# Altium schematic symbol library PCB_Project.SCHLIB: 27 symbols
Pins are listed as number, name and electrical type; pins without a type are passive.

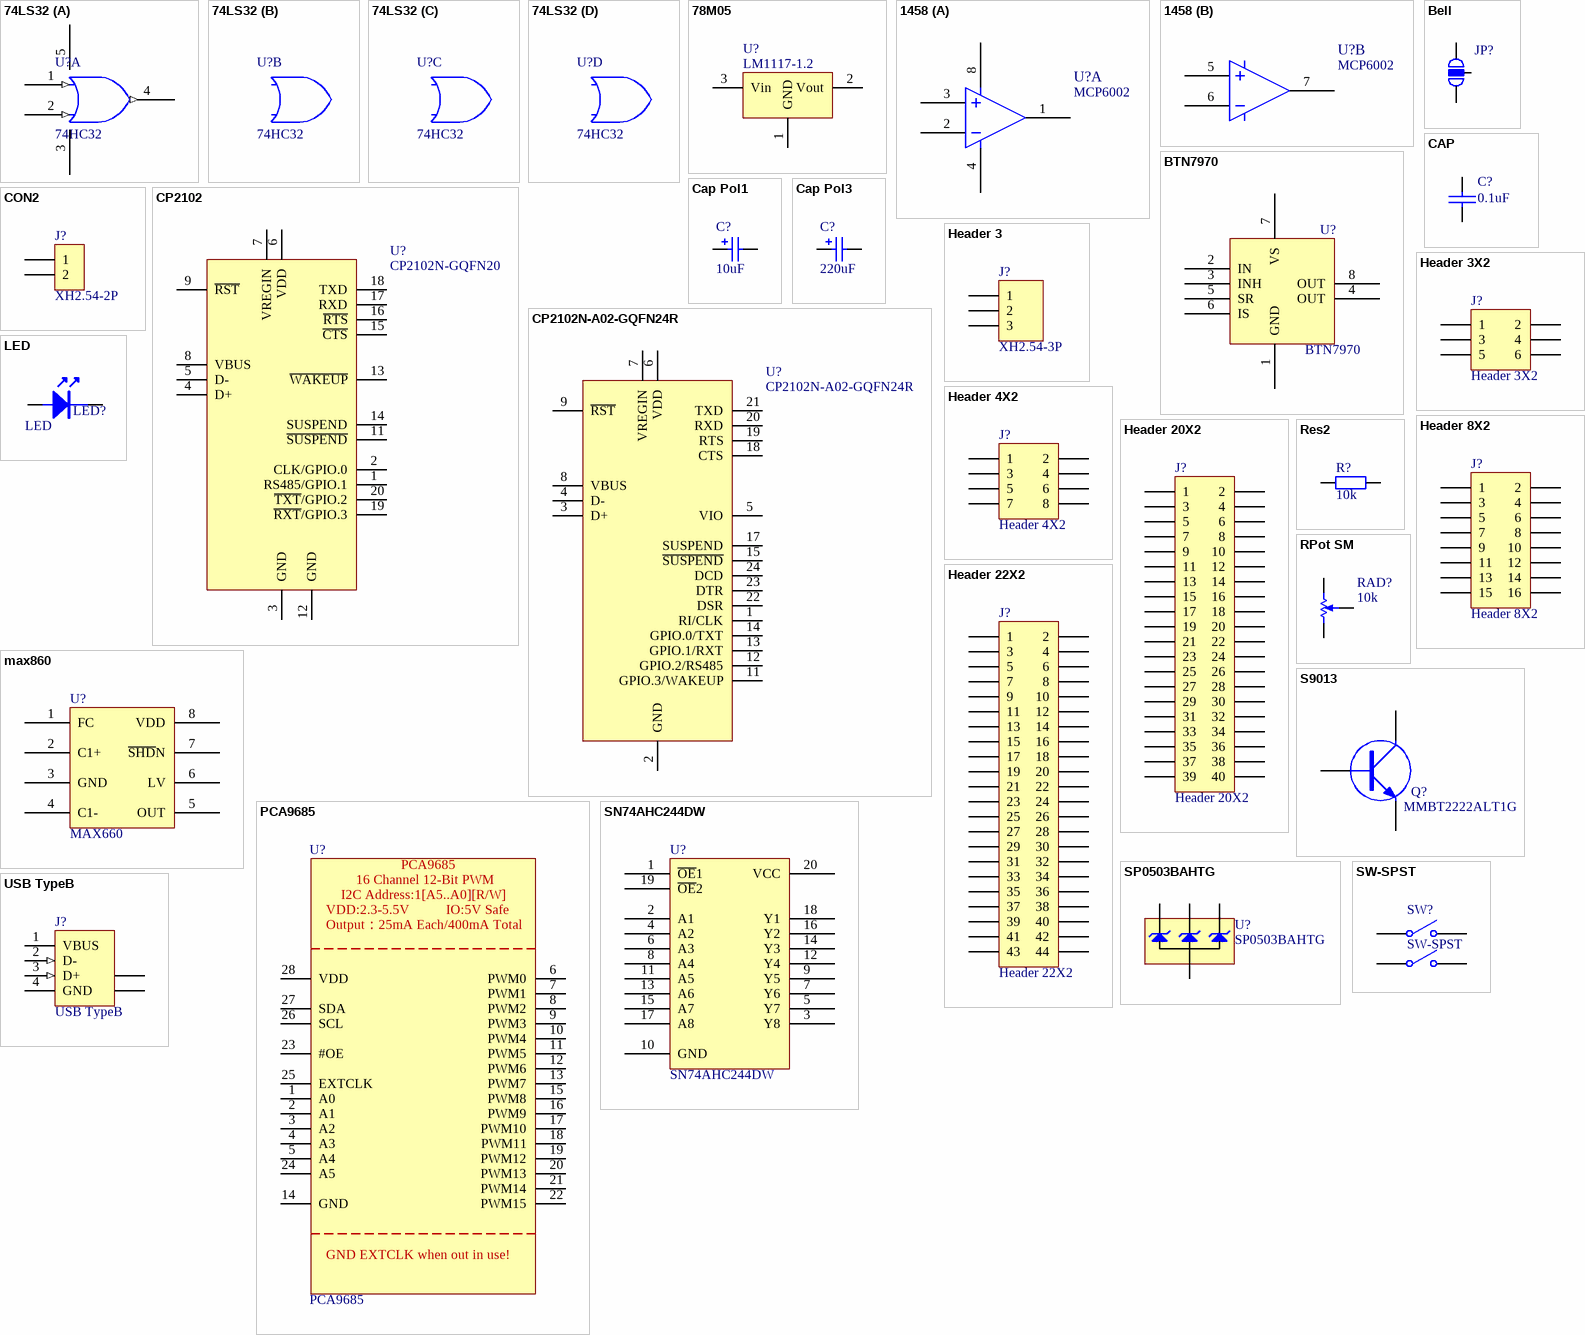
[diagram p0: symbols 74LS32 to USB TypeB]

## 74LS32
designator U?, comment 74HC32
footprint DIP-14
footprint SO-14
part A pins: 1 (in), 2 (in), 3 GND (power) hidden to GND, 4 (out), 5 VCC (power) hidden to VCC

## 78M05
designator U?, comment LM1117-1.2
三端稳压器; Value: LM1117-1.2
footprint TO220H
footprint SOT223
pins: 1 GND, 2 Vout, 3 Vin

## 1458
designator U?, comment MCP6002
集成电路; Value: MCP6002
footprint DIP-8
footprint SO-8
part A pins: 1, 2, 3, 4, 8
part B pins: 5, 6, 7

## Bell
designator JP?, comment Jumper  (value not drawn)
Value: 2.54mm单排针3P
footprint HDR1X3 (Connector; Header; 3 Position)
pins: 1 A, 2 B, 3 B

## BTN7970
designator U?
集成电路; Value: BTN7970
footprint BTN7970
pins: 1 GND, 2 IN, 3 INH, 4 OUT, 5 SR, 6 IS, 7 VS, 8 OUT

## CAP
designator C?, comment value 0.1uF  (hidden comment: 0805-50V-0.1uF)
贴片电容
footprint CC0805
pins: 1, 2

## Cap Pol1
designator C?, comment value 10uF  (hidden comment: CD-50V-10uF-F5(SMD))
贴片铝电解电容
footprint RB7.6-15 (Polarized Capacitor (Radial); 2 Leads)
footprint SMD-EC-F5
footprint SMD-EC-F5
pins: 1, 2
1 alternate drawing of the same symbol

## Cap Pol3
designator C?, comment value 220uF  (hidden comment: CD-50V-220uF-F8(SMD))
贴片铝电解电容
footprint SMD-EC-F8
footprint 1812 (Chip Capacitor, Body 4.5x3.2mm, IPC High Density)
footprint 1825 (Chip Capacitor, Body 4.5x6.4mm, IPC High Density)
footprint C2225 (Chip Capacitor, Body 5.7x6.4mm, IPC High Density)
footprint 2220 (Chip Capacitor, Body 5.7x5.0mm, IPC High Density)
simulation model CAP (Capacitor)
signal-integrity model Cap Pol
pins: 1, 2
1 alternate drawing of the same symbol

## CON2
designator J?, comment XH2.54-2P
插座; Value: XH2.54-2P
footprint VH3.96-2P
footprint XH2.54-2P
pins: 1, 2
2 alternate drawings of the same symbol

## CP2102
designator U?, comment CP2102N-GQFN20
pins: 1 RS485/GPIO.1, 2 CLK/GPIO.0, 3 GND, 4 D+, 5 D-, 6 VDD, 7 VREGIN, 8 VBUS, 9 ~{RST}, 11 ~{SUSPEND}, 12 GND, 13 ~{WAKEUP}, 14 SUSPEND, 15 ~{CTS}, 16 ~{RTS}, 17 RXD, 18 TXD, 19 ~{RXT}/GPIO.3, 20 ~{TXT}/GPIO.2

## CP2102N-A02-GQFN24R
designator U?
pins: 1 RI/CLK, 2 GND, 3 D+, 4 D-, 5 VIO, 6 VDD, 7 VREGIN, 8 VBUS, 9 ~{RST}, 11 GPIO.3/WAKEUP, 12 GPIO.2/RS485, 13 GPIO.1/RXT, 14 GPIO.0/TXT, 15 ~{SUSPEND}, 17 SUSPEND, 18 CTS, 19 RTS, 20 RXD, 21 TXD, 22 DSR, 23 DTR, 24 DCD

## Header 3
designator J?, comment XH2.54-3P
插座; Value: XH2.54-3P
footprint XH2.54-3P
signal-integrity model Connector
pins: 1, 2, 3

## Header 3X2
designator J?
Header, 3-Pin, Dual row; LatestRevisionDate: 17-Jul-2002; LatestRevisionNote: Re-released for DXP Platform.; Publisher: Altium Limited
footprint HDR2X3 (Connector; Header; 3x2 Position)
signal-integrity model Connector
pins: 1, 2, 3, 4, 5, 6

## Header 4X2
designator J?
Header, 4-Pin, Dual row; LatestRevisionDate: 17-Jul-2002; LatestRevisionNote: Re-released for DXP Platform.; Publisher: Altium Limited
footprint HDR2X4 (Connector; Header; 4x2 Position)
signal-integrity model Connector
pins: 1, 2, 3, 4, 5, 6, 7, 8

## Header 8X2
designator J?
Header, 8-Pin, Dual row; LatestRevisionDate: 17-Jul-2002; LatestRevisionNote: Re-released for DXP Platform.; Publisher: Altium Limited
footprint HDR2X8 (Connector; Header; 8x2 Position)
signal-integrity model Connector
pins: 1, 2, 3, 4, 5, 6, 7, 8, 9, 10, 11, 12, 13, 14, 15, 16

## Header 20X2
designator J?
Header, 20-Pin, Dual row; LatestRevisionDate: 17-Jul-2002; LatestRevisionNote: Re-released for DXP Platform.; Publisher: Altium Limited
footprint HDR2X20 (Connector; Header; 20x2 Position)
signal-integrity model Connector
pins: 1, 2, 3, 4, 5, 6, 7, 8, 9, 10, 11, 12, 13, 14, 15, 16, 17, 18, 19, 20, 21, 22, 23, 24, 25, 26, 27, 28, 29, 30, 31, 32, 33, 34, 35, 36, 37, 38, 39, 40

## Header 22X2
designator J?
Header, 22-Pin, Dual row; LatestRevisionDate: 17-Jul-2002; LatestRevisionNote: Re-released for DXP Platform.; Publisher: Altium Limited
footprint HDR2X22 (Connector; Header; 22x2 Position)
signal-integrity model Connector
pins: 1, 2, 3, 4, 5, 6, 7, 8, 9, 10, 11, 12, 13, 14, 15, 16, 17, 18, 19, 20, 21, 22, 23, 24, 25, 26, 27, 28, 29, 30, 31, 32, 33, 34, 35, 36, 37, 38, 39, 40, 41, 42, 43, 44

## LED
designator LED?, comment value LED  (hidden comment: LED-φ3(翠绿))
发光二极管
footprint LED-R3 (Typical RED GaAs LED; 2 Leads)
pins: 1, 2
2 alternate drawings of the same symbol

## max860
designator U?, comment MAX660
集成电路; Value: MAX660
footprint SO-8
pins: 1 FC, 2 C1+, 3 GND, 4 C1-, 5 OUT, 6 LV, 7 ~{SHD}N, 8 VDD

## PCA9685
designator U?
footprint TSSOP-28
pins: 1 A0, 2 A1, 3 A2, 4 A3, 5 A4, 6 PWM0, 7 PWM1, 8 PWM2, 9 PWM3, 10 PWM4, 11 PWM5, 12 PWM6, 13 PWM7, 14 GND, 15 PWM8, 16 PWM9, 17 PWM10, 18 PWM11, 19 PWM12, 20 PWM13, 21 PWM14, 22 PWM15, 23 #OE, 24 A5, 25 EXTCLK, 26 SCL, 27 SDA, 28 VDD
text: 16 Channel 12-Bit PWM; I2C Address:1[A5..A0][R/W]; VDD:2.3-5.5V; IO:5V Safe; Output：25mA Each/400mA Total; GND EXTCLK when out in use!

## Res2
designator R?, comment value 10k  (hidden comment: 0805-10kΩ±1％)
贴片电阻
footprint 0805
pins: 1, 2

## RPot SM
designator RAD?, comment value 10k  (hidden comment: 3224W-10k)
贴片电位器
footprint 3224W
pins: 1 CCW, 2 W, 3 CW
1 alternate drawing of the same symbol

## S9013
designator Q?, comment value MMBT2222ALT1G  (hidden comment: MMBT2222ALT1G(SOT-23))
贴片三极管
footprint SOT23
pins: 1 B, 2 E, 3 C

## SN74AHC244DW
designator U?
集成电路; Value: SN74AHC244DW
footprint SOP-20
pins: 1 ~{OE}1, 2 A1, 3 Y8, 4 A2, 5 Y7, 6 A3, 7 Y6, 8 A4, 9 Y5, 10 GND, 11 A5, 12 Y4, 13 A6, 14 Y3, 15 A7, 16 Y2, 17 A8, 18 Y1, 19 ~{OE}2, 20 VCC

## SP0503BAHTG
designator U?
三端稳压器; Value: SP0503BAHTG
footprint TO220H
footprint SOT223
pins: 1 A, 2 K, 3 K, 4 K

## SW-SPST
designator SW?
Single-Pole, Single-Throw Switch; Published: 24-Mar-1999; LatestRevisionDate: 17-Jul-2002; LatestRevisionNote: Re-released for DXP Platform.; PackageReference: SPST-2; Publisher: Altium Limited; PackageDescription: Switch; 2 Leads
footprint SPST-2 (Switch; 2 Leads)
pins: 1 COMMON, 2 NO, 5 NO, 6 COMMON

## USB TypeB
designator J?
USB TypeB 方口; Value: USB TypeB
footprint USB TypeA 平插
signal-integrity model USB1.1
pins: 1 VBUS (power) "Power", 2 D- (in) "-DATA", 3 D+ (in) "+DATA", 4 GND (power) "Ground", 5 SHLD "Shield", 6 SHLD "Shield"